# Altium schematic symbol library VDMO10A0.SchLib: 1 symbol
Pins are listed as number, name and electrical type; pins without a type are passive.

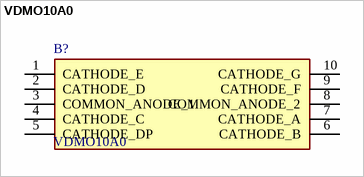
[diagram p0: symbol VDMO10A0]

## VDMO10A0
designator B?
VISHAY - VDMO10A0 - DISPLAY, SEVEN SEGMENT, 10MM, ORANGE; Geometry.Height: 3.75mm; Farnell Part Number: *; Farnell Price/Stock: *; Manufacturer_Name: Vishay; Manufacturer_Part_Number: VDMO10A0; Datasheet Link: https://www.vishay.com/docs/84196/vdmx10x0.pdf
footprint VDMO10A0
pins: 1 CATHODE_E, 2 CATHODE_D, 3 COMMON_ANODE_1, 4 CATHODE_C, 5 CATHODE_DP, 6 CATHODE_B, 7 CATHODE_A, 8 COMMON_ANODE_2, 9 CATHODE_F, 10 CATHODE_G